# EAGLE library part MT88E43B (library microsemi)
Extended Voltage Calling Number Identification Circuit for CLIP, CID and CIDCW
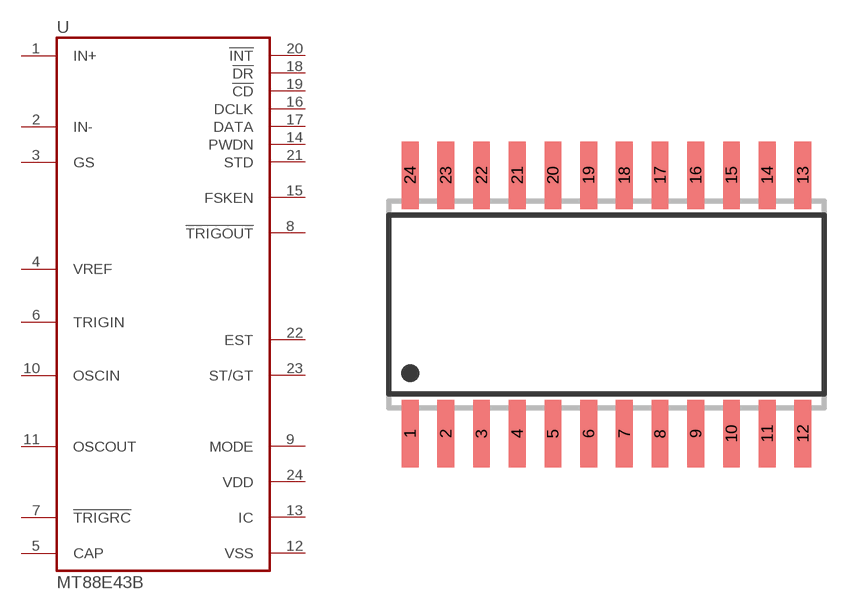
[diagram p1: symbol with the pads of SO24W; footprint SO24W]

Designator prefix U

## MT88E43B  [SO24W]
1  IN+  in
2  IN-  in
3  GS
4  VREF  out
5  CAP  pas
6  TRIGIN  in
7  !TRIGRC  oc
8  !TRIGOUT  out
9  MODE  in
10  OSCIN  in
11  OSCOUT  out
12  VSS  pwr
13  IC  in
14  PWDN  in
15  FSKEN  in
16  DCLK
17  DATA  out
18  !DR  out
19  !CD  out
20  !INT  oc
21  STD  out
22  EST  out
23  ST/GT
24  VDD  pwr

## Footprint SO24W (pad centres in mm)
SMALL OUTLINE INTEGRATED CIRCUIT wide body 7.5 mm/JEDEC MO-119AA
smd 0.6 x 2.4: 1 -6.985,-4.6; 2 -5.715,-4.6; 3 -4.445,-4.6; 4 -3.175,-4.6; 5 -1.905,-4.6; 6 -0.635,-4.6; 7 0.635,-4.6; 8 1.905,-4.6; 9 3.175,-4.6; 10 4.445,-4.6; 11 5.715,-4.6; 12 6.985,-4.6; 13 6.985,4.6; 14 5.715,4.6; 15 4.445,4.6; 16 3.175,4.6; 17 1.905,4.6; 18 0.635,4.6; 19 -0.635,4.6; 20 -1.905,4.6; 21 -3.175,4.6; 22 -4.445,4.6; 23 -5.715,4.6; 24 -6.985,4.6